# EAGLE library part MOLSL_7PIN (library daqcs_host)
Molex SL Series 6-Position Connector Wire to board 2.54 mm (.1 inch) pitch header (right-angle or vertical) Housing: Vendor=Molex, Vendor_PN=0050579406 22-24 AWG Crimp: Vendor=Molex, Vendor_PN=0016020087 Wires: AWG,Amps (Max) 22, 3.0 24, 3.0 26, 1.8 28, 1.2
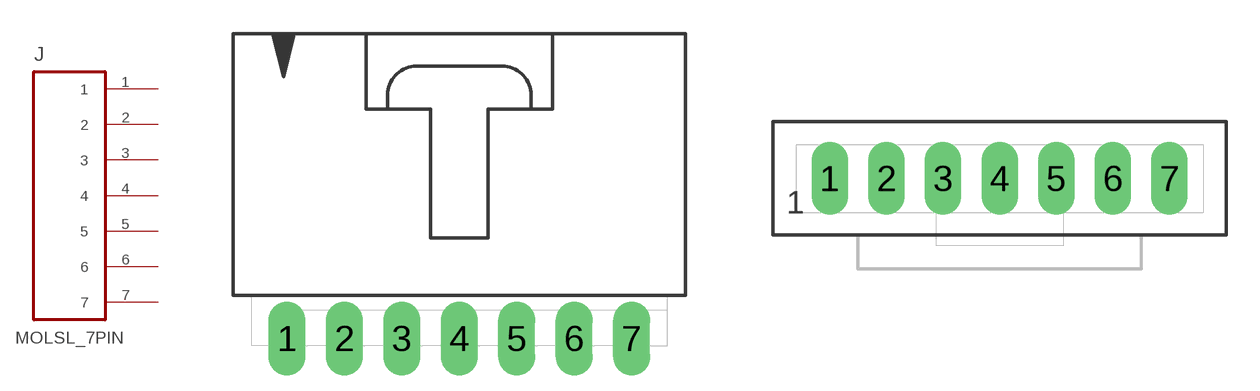
[diagram p11: symbol with the pads of MOLSL-7-RA; footprints MOLSL-7-RA, MOLSL-7-V]

Designator prefix J

## MOLSL_7PIN_RA (FINISH: Gold; LOCKING: Yes; MANUFACTURER: Molex; MANUFACTURER_PN: 70553-0111; MAX_CURRENT: 3.0A; MOUNT_ANGLE: Right; MOUNT_TYPE: TH; POSITIONS: 7; VALUE: MOLSL-7-RA; VENDOR: Digi-key; VENDOR_PN: WM4158-ND)  [MOLSL-7-RA]
1  1
2  2
3  3
4  4
5  5
6  6
7  7

## MOLSL_7PIN_V (FINISH: Gold; LOCKING: Yes; MANUFACTURER: Molex; MANUFACTURER_PN: 0705430006; MAX_CURRENT: 3.0A; MOUNT_ANGLE: Vertical; MOUNT_TYPE: TH; POSITIONS: 7; VALUE: MOLSL-7_V; VENDOR: Digi-key; VENDOR_PN: WM4805-ND)  [MOLSL-7-V]
Pads as for MOLSL-7-RA

## Footprint MOLSL-7-RA (pad centres in mm)
C-Grid SL Connector right angle, 6 pin
drill 1.09 long: 1 -7.62,-7.62; 2 -5.08,-7.62; 3 -2.54,-7.62; 4 0,-7.62; 5 2.54,-7.62; 6 5.08,-7.62; 7 7.62,-7.62

## Footprint MOLSL-7-V (pad centres in mm)
C-Grid SL Connector vertical, 6 pin
drill 1.09 long: 1 -7.62,0; 2 -5.08,0; 3 -2.54,0; 4 0,0; 5 2.54,0; 6 5.08,0; 7 7.62,0